# Altium schematic symbol library PCM1803A.Schlib: 1 symbol
Pins are listed as number, name and electrical type; pins without a type are passive.

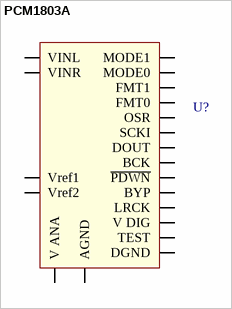
[diagram p0: symbol PCM1803A]

## PCM1803A
designator U?  (value not drawn)
pins: 1 VINL, 2 VINR, 3 Vref1, 4 Vref2, 5 V ANA, 6 AGND, 7 ~{PDWN}, 8 BYP, 9 TEST, 10 LRCK, 11 BCK, 12 DOUT, 13 DGND, 14 V DIG, 15 SCKI, 16 OSR, 17 FMT0, 18 FMT1, 19 MODE0, 20 MODE1
2 alternate drawings of the same symbol